# EAGLE library part MURATA_NSC12 (library murata_nsc12)
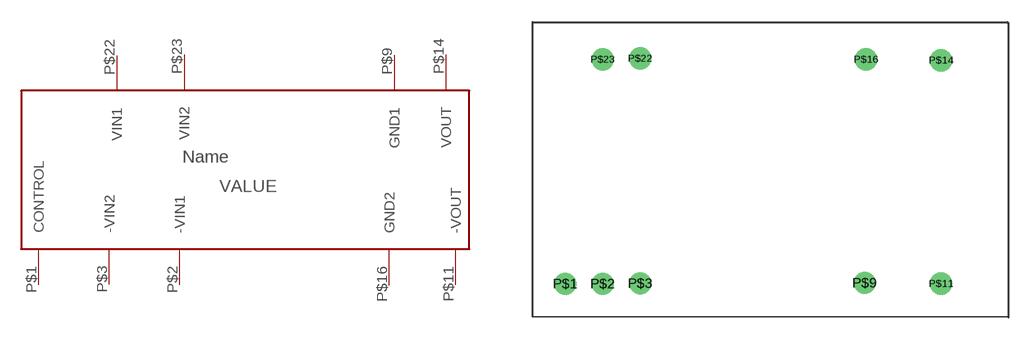
[diagram p0: symbol with the pads of MURATA_NSC12; footprint MURATA_NSC12]

Designator prefix -

## MURATA_NSC12  [MURATA_NSC12]
P$1  CONTROL
P$2  -VIN1
P$3  -VIN2
P$9  GND1
P$11  -VOUT
P$14  VOUT
P$16  GND2
P$22  VIN1
P$23  VIN2

## Footprint MURATA_NSC12 (pad centres in mm)
drill 1: P$1 -10.57,-11.22; P$2 -8.03,-11.22; P$3 -5.48,-11.19; P$9 9.75,-11.16; P$11 14.93,-11.21; P$14 14.93,3.97; P$16 9.84,4.03; P$22 -5.49,4.1; P$23 -8.03,4.03